# EAGLE library part MOD_WIFI_BT_PCIE_AIC8800D80P (library !GPLIB_ACTIVE)
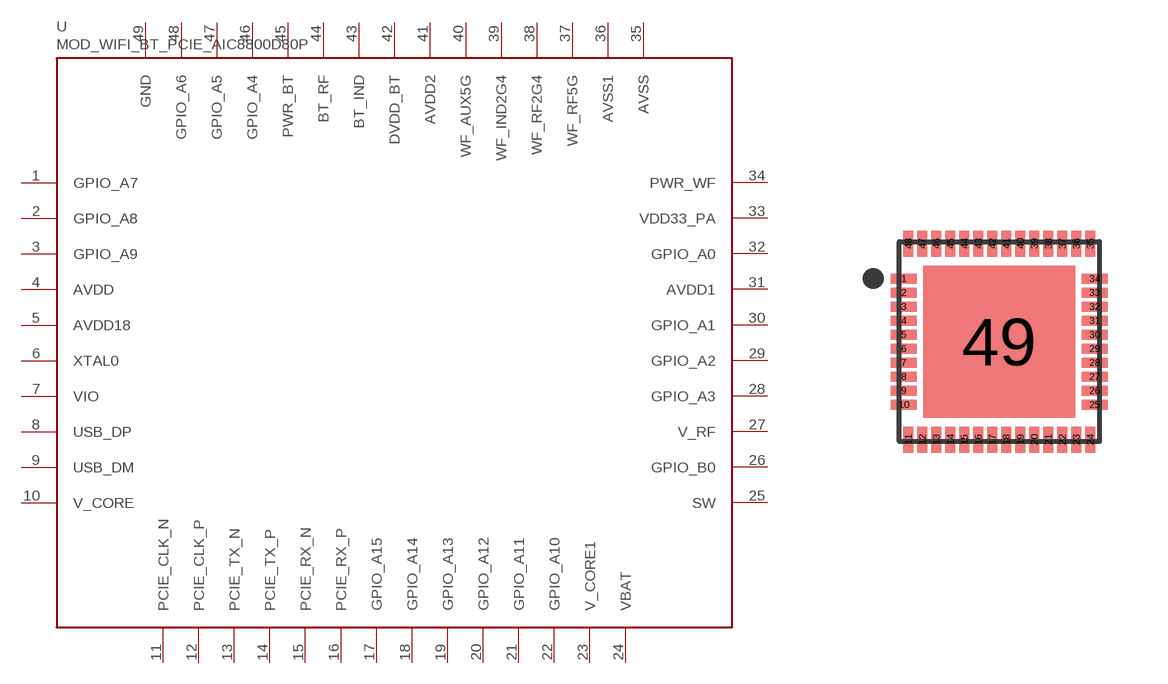
[diagram p44: symbol with the pads of QFN35P500X500X80-49N; footprint QFN35P500X500X80-49N]

Designator prefix U

## MOD_WIFI_BT_PCIE_AIC8800D80P  [QFN35P500X500X80-49N]
1  GPIO_A7
2  GPIO_A8
3  GPIO_A9
4  AVDD  pwr
5  AVDD18  pwr
6  XTAL0  out
7  VIO  out
8  USB_DP  out
9  USB_DM  out
10  V_CORE  out
11  PCIE_CLK_N  in
12  PCIE_CLK_P  in
13  PCIE_TX_N  in
14  PCIE_TX_P  in
15  PCIE_RX_N  in
16  PCIE_RX_P  in
17  GPIO_A15
18  GPIO_A14
19  GPIO_A13
20  GPIO_A12
21  GPIO_A11
22  GPIO_A10
23  V_CORE1  out
24  VBAT  pwr
25  SW
26  GPIO_B0
27  V_RF  in
28  GPIO_A3
29  GPIO_A2
30  GPIO_A1
31  AVDD1  pwr
32  GPIO_A0
33  VDD33_PA  pwr
34  PWR_WF  pwr
35  AVSS  pwr
36  AVSS1  pwr
37  WF_RF5G  in
38  WF_RF2G4  in
39  WF_IND2G4  in
40  WF_AUX5G  in
41  AVDD2  pwr
42  DVDD_BT  pwr
43  BT_IND  pwr
44  BT_RF  pwr
45  PWR_BT  pwr
46  GPIO_A4
47  GPIO_A5
48  GPIO_A6
49  GND  pwr

## Footprint QFN35P500X500X80-49N (pad centres in mm)
smd 0.65 x 0.25: 1 -2.386,1.575; 2 -2.386,1.225; 3 -2.386,0.875; 4 -2.386,0.525; 5 -2.386,0.175; 6 -2.386,-0.175; 7 -2.386,-0.525; 8 -2.386,-0.875; 9 -2.386,-1.225; 10 -2.386,-1.575; 25 2.386,-1.575; 26 2.386,-1.225; 27 2.386,-0.875; 28 2.386,-0.525; 29 2.386,-0.175; 30 2.386,0.175; 31 2.386,0.525; 32 2.386,0.875; 33 2.386,1.225; 34 2.386,1.575
smd 0.25 x 0.65: 11 -2.275,-2.45; 12 -1.925,-2.45; 13 -1.575,-2.45; 14 -1.225,-2.45; 15 -0.875,-2.45; 16 -0.525,-2.45; 17 -0.175,-2.45; 18 0.175,-2.45; 19 0.525,-2.45; 20 0.875,-2.45; 21 1.225,-2.45; 22 1.575,-2.45; 23 1.925,-2.45; 24 2.275,-2.45; 35 2.275,2.45; 36 1.925,2.45; 37 1.575,2.45; 38 1.225,2.45; 39 0.875,2.45; 40 0.525,2.45; 41 0.175,2.45; 42 -0.175,2.45; 43 -0.525,2.45; 44 -0.875,2.45; 45 -1.225,2.45; 46 -1.575,2.45; 47 -1.925,2.45; 48 -2.275,2.45
smd 3.8 x 3.8: 49 0,0